# Altium footprint library supercap.PCBLIB: 487 footprints (part 29 of 31)
Each footprint in its own frame and in the unit in brackets; x right, y up, seen from the top. Pads: shape width x height; smd on the part's side, far side on the other; paste and mask are expansions set on the pad; w line width, h text height; cw(c..) or ccw(c..) is an arc to the next point about the centre after c.
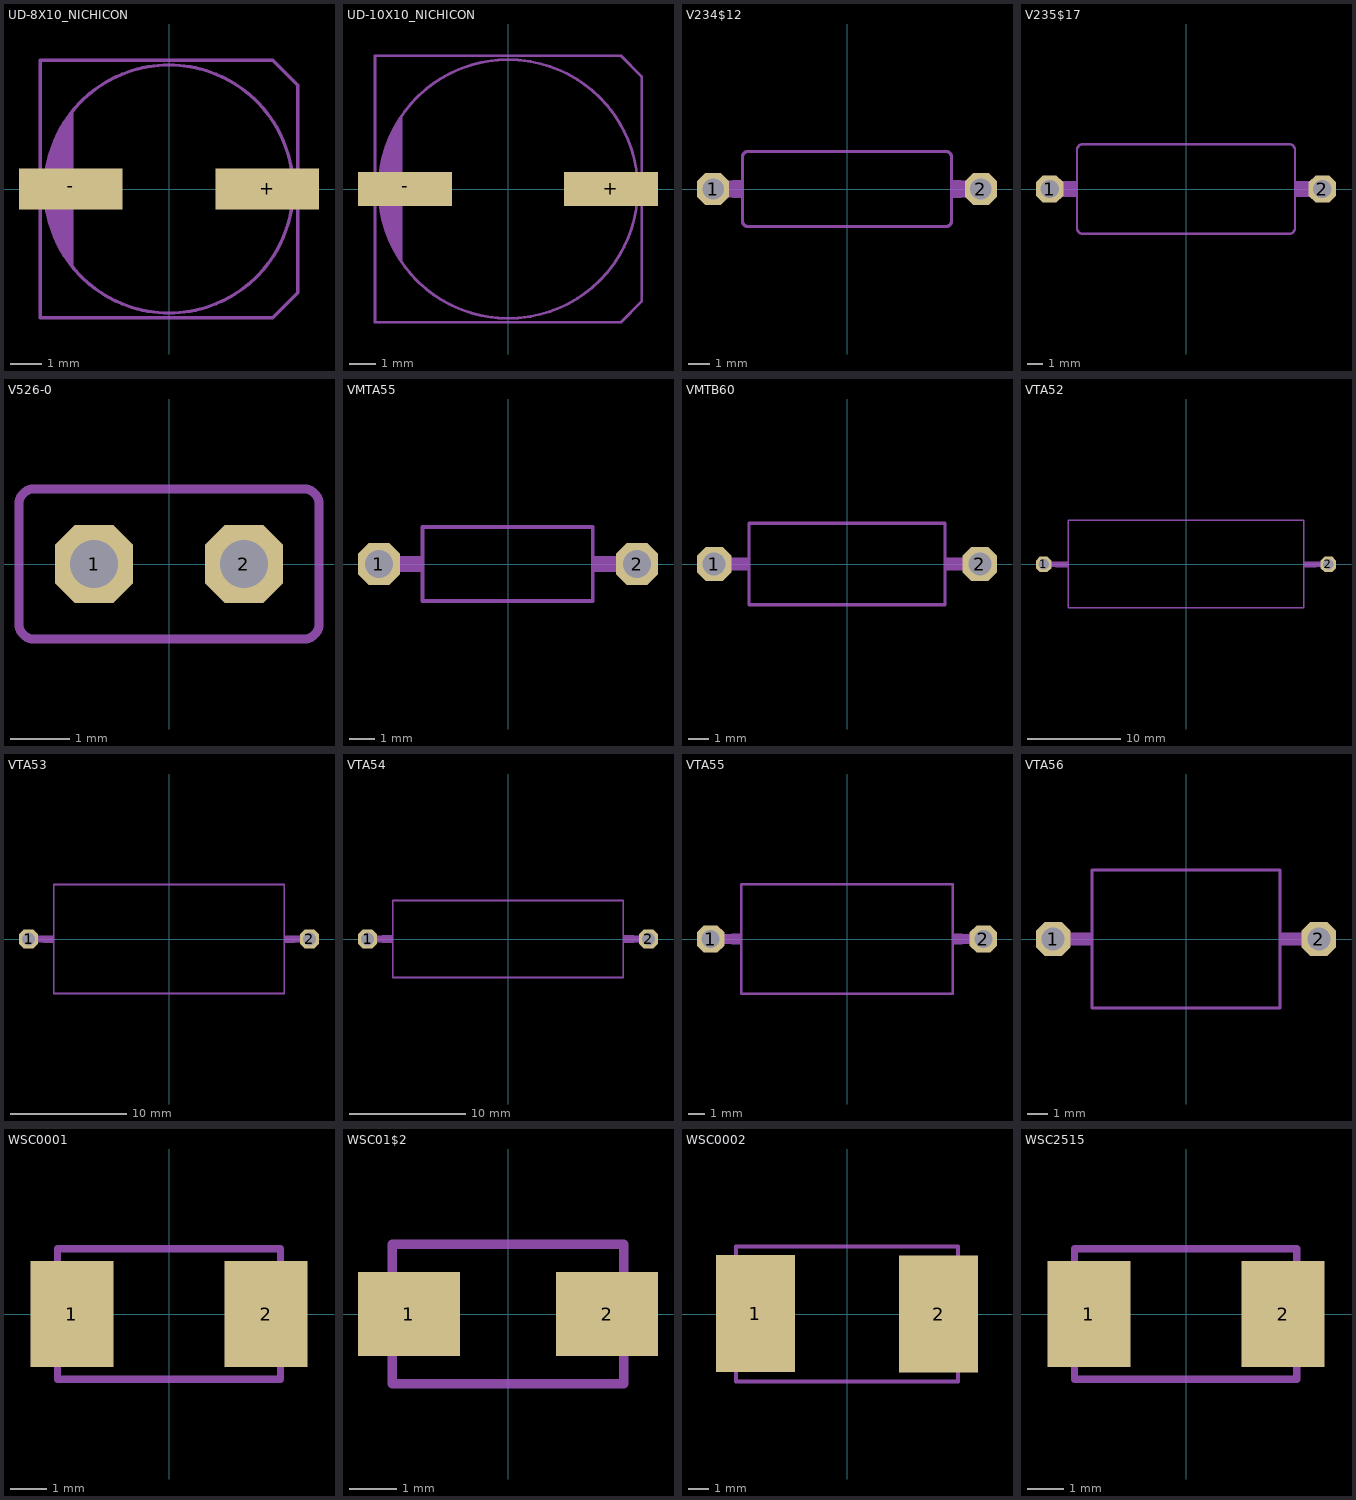
[diagram p28: the footprints below, top view; thin cyan lines are the x and y axes]

## UD-8X10_NICHICON [mil]
pads (2):
  rect 129.92x51.18 smd: +(123.03,0) -(-123.03,0)
tDocu:
  circle w4: c0,0 r155.51
  region: -120.08,97.44 -125.61,90.6 -135.04,75.77 -142.74,59.96 -148.6,43.39 -152.54,26.26 -154.53,8.79 -154.53,-8.79 -152.54,-26.26 -148.6,-43.39 -142.74,-59.96 -135.04,-75.77 -125.61,-90.6 -120.08,-97.44
  lines w4: -161.42,-161.42 129.92,-161.42 161.42,-129.92 161.42,129.92 129.92,161.42 -161.42,161.42 -161.42,-161.42
tPlace:
  lines w4: -161.42,-33.46 -161.42,-161.42 129.92,-161.42 161.42,-129.92 ; -161.42,32.48 -161.42,161.42 129.92,161.42 161.42,129.92 ; -151.57,-34.45 ccw(c0,-0.1) 151.57,-34.45 ; -151.57,34.45 cw(c0,0.1) 151.57,34.45

## UD-10X10_NICHICON [mil]
pads (2):
  rect 141.73x51.18 smd: +(154.53,0) -(-155.51,0)
tDocu:
  circle w4: c0,0 r194.88
  region: -159.45,110.24 -165.05,102.16 -174.56,84.97 -182.29,66.9 -188.15,48.14 -192.1,28.89 -194.08,9.34 -194.08,-10.32 -192.1,-29.87 -188.15,-49.12 -182.29,-67.88 -174.56,-85.95 -165.05,-103.14 -159.45,-111.22
  lines w4: -200.79,-200.79 169.29,-200.79 200.79,-169.29 200.79,169.29 169.29,200.79 -200.79,200.79 -200.79,-200.79
tPlace:
  lines w4: -200.79,-33.46 -200.79,-200.79 169.29,-200.79 200.79,-169.29 ; -200.79,34.45 -200.79,200.79 169.29,200.79 200.79,169.29 ; -191.93,-33.46 ccw(c0,-0.07) 191.93,-33.46 ; -191.93,33.46 cw(c0,0.07) 191.93,33.46

## V234$12 [mil]
pads (2):
  oct 60x60 / inner round 55.43 / far side oct 60x60 hole 40: 1(-250,0) 2(250,0)
tDocu:
  lines w32: -250,0 -215,0 ; 215,0 250,0
tPlace:
  region: 195,-16 195,16 213,16 213,-16
  region: -213,-16 -213,16 -195,16 -195,-16
  lines w6: -195,-60 ccw(c-185,-60) -185,-70 185,-70 ccw(c185,-60) 195,-60 195,60 ccw(c185,60) 185,70 -185,70 ccw(c-185,60) -195,60 -195,-60

## V235$17 [mil]
pads (2):
  oct 70.5x70.5 / inner round 65.13 / far side oct 70.5x70.5 hole 47: 1(-350,0) 2(350,0)
tDocu:
  lines w40: -350,0 -310,0 ; 310,0 350,0
tPlace:
  region: 280,-20 280,20 305,20 305,-20
  region: -305,-20 -305,20 -280,20 -280,-20
  lines w6: -280,-100 -280,100 cw(c-265,100) -265,115 265,115 cw(c265,100) 280,100 280,-100 cw(c265,-100) 265,-115 -265,-115 cw(c-265,-100) -280,-100

## V526-0 [mil]
pads (2):
  oct 52x52 / inner round 48.04 / far side oct 52x52 hole 32: 1(-50,0) 2(50,0)
tPlace:
  lines w6: -100,-40 ccw(c-90,-40) -90,-50 90,-50 ccw(c90,-40) 100,-40 100,40 ccw(c90,40) 90,50 -90,50 ccw(c-90,40) -100,40 -100,-40

## VMTA55 [mil]
pads (2):
  oct 64.97x64.97 / inner round 60.02 / far side oct 64.97x64.97 hole 43.31: 1(-200,0) 2(200,0)
tDocu:
  lines w24: -200,0 -167.72,0 ; 166.73,0 200,0
tPlace:
  region: -167.72,-12 -167.72,12 -130.22,12 -130.22,-12
  region: 129.23,-12 129.23,12 166.73,12 166.73,-12
  lines w6: -132.38,-57.09 -132.38,57.09 131.4,57.09 131.4,-57.09 -132.38,-57.09

## VMTB60 [mil]
pads (2):
  oct 64.97x64.97 / inner round 60.02 / far side oct 64.97x64.97 hole 43.31: 1(-250,0) 2(250,0)
tDocu:
  lines w24: -250,0 -219.88,0 ; 219.88,0 250,0
tPlace:
  region: -219.88,-12 -219.88,12 -182.38,12 -182.38,-12
  region: 182.38,-12 182.38,12 219.88,12 219.88,-12
  lines w6: -184.55,-76.77 -184.55,76.77 184.55,76.77 184.55,-76.77 -184.55,-76.77

## VTA52 [mil]
pads (2):
  oct 64.97x64.97 / inner round 60.02 / far side oct 64.97x64.97 hole 43.31: 1(-600,0) 2(600,0)
tDocu:
  lines w24: -600,0 -550,0 ; 550,0 600,0
tPlace:
  region: -550,-12 -550,12 -494.78,12 -494.78,-12
  region: 494.78,-12 494.78,12 550,12 550,-12
  lines w6: -496.95,-183.07 -496.95,0.98 -496.95,186.02 496.95,186.02 496.95,0.98 496.95,-183.07 -496.95,-183.07

## VTA53 [mil]
pads (2):
  oct 64.97x64.97 / inner round 60.02 / far side oct 64.97x64.97 hole 43.31: 1(-475,0) 2(475,0)
tDocu:
  lines w24: -475,0 -425,0 ; 425,0 475,0
tPlace:
  region: -425,-12 -425,12 -387.5,12 -387.5,-12
  region: 387.5,-12 387.5,12 425,12 425,-12
  lines w6: -389.67,-184.06 -389.67,0 -389.67,185.04 389.67,185.04 389.67,0 389.67,-184.06 -389.67,-184.06

## VTA54 [mil]
pads (2):
  oct 64.97x64.97 / inner round 60.02 / far side oct 64.97x64.97 hole 43.31: 1(-475,0) 2(475,0)
tDocu:
  lines w24: -475,0 -425,0 ; 425,0 475,0
tPlace:
  region: -425,-12 -425,12 -387.5,12 -387.5,-12
  region: 387.5,-12 387.5,12 425,12 425,-12
  lines w6: -389.67,-129.92 -389.67,0 -389.67,129.92 389.67,129.92 389.67,0 389.67,-129.92 -389.67,-129.92

## VTA55 [mil]
pads (2):
  oct 64.97x64.97 / inner round 60.02 / far side oct 64.97x64.97 hole 43.31: 1(-325,0) 2(325,0)
tDocu:
  lines w24: -325,0 -275,0 ; 275,0 325,0
tPlace:
  region: -275,-12 -275,12 -250,12 -250,-12
  region: 250,-12 250,12 275,12 275,-12
  lines w6: -252.17,-129.92 -252.17,0 -252.17,129.92 252.17,129.92 252.17,0 252.17,-129.92 -252.17,-129.92

## VTA56 [mil]
pads (2):
  oct 64.97x64.97 / inner round 60.02 / far side oct 64.97x64.97 hole 43.31: 1(-250,0) 2(250,0)
tDocu:
  lines w24: -250,0 -200,0 ; 200,0 250,0
tPlace:
  region: -200,-12 -200,12 -175,12 -175,-12
  region: 175,-12 175,12 200,12 200,-12
  lines w6: -177.17,-129.92 -177.17,0 -177.17,129.92 177.17,129.92 177.17,0 177.17,-129.92 -177.17,-129.92

## WSC0001 [mm]
pads (2):
  rect 2.29x2.92 smd: 1(-2.675,0) 2(2.675,0)
tDocu:
  lines w0.203: -3.075,-1.8 -3.075,1.8 ; 3.075,-1.8 3.075,1.8
tPlace:
  lines w0.203: -3.075,-1.606 -3.075,-1.8 3.075,-1.8 3.075,-1.606 ; -3.075,1.606 -3.075,1.8 3.075,1.8 3.075,1.606

## WSC01$2 [mm]
pads (2):
  rect 2.16x1.78 smd: 1(-2.1,0) 2(2.1,0)
tDocu:
  lines w0.203: -2.45,-1.475 -2.45,1.475 ; 2.45,-1.475 2.45,1.475
tPlace:
  lines w0.203: -2.45,-1.106 -2.45,-1.475 2.45,-1.475 2.45,-1.106 ; -2.45,1.106 -2.45,1.475 2.45,1.475 2.45,1.106

## WSC0002 [mil]
pads (2):
  rect 155.12x229.92 smd: 1(-180.12,0.98) 2(180.12,0)
tDocu:
  lines w8: -218.5,-132.87 -218.5,132.87 ; 218.5,-132.87 218.5,132.87
tPlace:
  lines w8: -218.5,-132.87 218.5,-132.87 ; -218.5,132.87 218.5,132.87

## WSC2515 [mm]
pads (2):
  rect 2.29x2.92 smd: 1(-2.675,0) 2(2.675,0)
tDocu:
  lines w0.203: -3.075,-1.8 -3.075,1.8 ; 3.05,-1.8 3.05,1.8
tPlace:
  lines w0.203: -3.075,-1.606 -3.075,-1.8 3.05,-1.8 3.05,-1.606 ; -3.075,1.606 -3.075,1.8 3.05,1.8 3.05,1.606